# EAGLE library part MOLEX_MICRO_USB (library board_connectivity)
Conn Micro USB Type B RCP 5 POS 0.65mm Solder RA SMD 5 Terminal 1 Port T/R
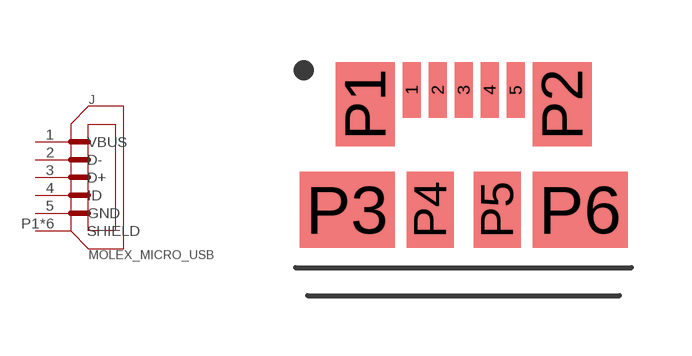
[diagram p0: symbol with the pads of 047346-0001; footprint 047346-0001]

Designator prefix J

## MOLEX_MICRO_USB (MF: Molex; MP: 0473460001; VALUE: 0473460001)  [047346-0001]
1  VBUS  pwr
2  D-
3  D+
4  ID
5  GND  pwr
P1  SHIELD
P2  SHIELD
P3  SHIELD
P4  SHIELD
P5  SHIELD
P6  SHIELD

## Footprint 047346-0001 (pad centres in mm)
smd 0.45 x 1.38: 1 -1.3,0; 2 -0.65,0; 3 0,0; 4 0.65,0; 5 1.3,0
smd 1.475 x 2.1: P1 -2.462,-0.36; P2 2.462,-0.36
smd 2.375 x 1.9: P3 -2.913,-2.99; P6 2.913,-2.99
smd 1.175 x 1.9: P4 -0.838,-2.99; P5 0.838,-2.99